# Altium schematic symbol library Trans Adj.Schlib: 1 symbol
Pins are listed as number, name and electrical type; pins without a type are passive.

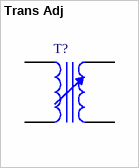
[diagram p0: symbol Trans Adj]

## Trans Adj
designator T?
Variable Transformer
pins: 1, 2, 3, 4